# EAGLE library part ADS8319IBDGSR (library ADS8319IBDGSR)
ADC
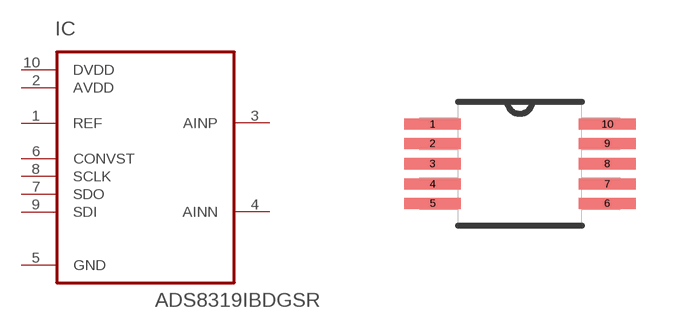
[diagram p0: symbol with the pads of SOP50P490X110-10N; footprint SOP50P490X110-10N]

Designator prefix IC

## ADS8319IBDGSR (DESCRIPTION: Precision 16-Bit SAR w/ SPI interface in MSOP-10 10-VSSOP -40 to 85; DIGI-KEY_PART_NUMBER: ADS8319IBDGSR-ND; DIGI-KEY_PURCHASE_URL: https://www.digikey.com/product-detail/en/texas-instruments/ADS8319IBDGSR/ADS8319IBDGSR-ND/2047198?utm_source=snapeda&utm_medium=aggregator&utm_campaign=symbol; MF: Texas Instruments; MP: ADS8319IBDGSR; PACKAGE: MSOP-10 Texas Instruments)  [SOP50P490X110-10N]
1  REF  in
2  AVDD  pwr
3  AINP  in
4  AINN  in
5  GND  pas
6  CONVST  in
7  SDO  out
8  SCLK  in
9  SDI  in
10  DVDD  pwr

## Footprint SOP50P490X110-10N (pad centres in mm)
smd 1.422 x 0.279: 1 -2.184,0.991; 2 -2.184,0.508; 3 -2.184,0; 4 -2.184,-0.508; 5 -2.184,-0.991; 6 2.184,-0.991; 7 2.184,-0.508; 8 2.184,0; 9 2.184,0.508; 10 2.184,0.991